# EAGLE library part ISO124 (library opamps)
ISO124: Isolation buffer (Burr-Brown) ±15V, ±5mA 50mV offset, 50kHz UGF, 4µV/rt(Hz) noise, 1500V isolation
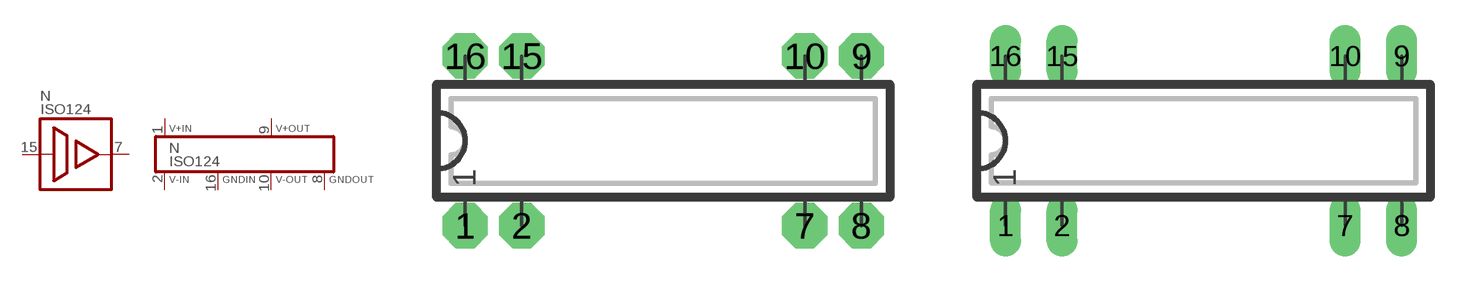
[diagram p217: symbol with the pads of DIP16-8N; footprints DIP16-8N, DIP16-8L]

Designator prefix N; gates A=ISO_1 P=VISO

## ISO124N  [DIP16-8N]
1  P:V+IN  pwr
2  P:V-IN  pwr
7  A:OUT  out
8  P:GNDOUT  pwr
9  P:V+OUT  pwr
10  P:V-OUT  pwr
15  A:IN  in
16  P:GNDIN  pwr

## ISO124L  [DIP16-8L]
Pads as for DIP16-8N

## ISO124R  [DIP16-8R]
Pads as for DIP16-8N

## ISO124  [DIP16-8L]
Pads as for DIP16-8N

## Footprint DIP16-8N (pad centres in mm)
DIP-16 IC package, 16 pins, 8 pins used
drill 0.813 pad 2.032 octagon: 1 -8.89,-3.81; 2 -6.35,-3.81; 7 6.35,-3.81; 8 8.89,-3.81; 9 8.89,3.81; 10 6.35,3.81; 15 -6.35,3.81; 16 -8.89,3.81

## Footprint DIP16-8L (pad centres in mm)
DIP-16, long pads IC package, 16 pins, 8 pins used
drill 0.813 pad 1.397 long: 1 -8.89,-3.81; 2 -6.35,-3.81; 7 6.35,-3.81; 8 8.89,-3.81; 9 8.89,3.81; 10 6.35,3.81; 15 -6.35,3.81; 16 -8.89,3.81

## Footprint DIP16-8R (pad centres in mm)
DIP-16, reduced pads IC package, 16 pins, 8 pins used
drill 0.813 pad 1.397 square: 1 -8.89,-3.81; 2 -6.35,-3.81; 7 6.35,-3.81; 8 8.89,-3.81; 9 8.89,3.81; 10 6.35,3.81; 15 -6.35,3.81; 16 -8.89,3.81